# Altium footprint library PCB_ANT.PcbLib: 2 footprints
Each footprint in its own frame and in the unit in brackets; x right, y up, seen from the top. Pads: shape width x height; smd on the part's side, far side on the other; paste and mask are expansions set on the pad; w line width, h text height; cw(c..) or ccw(c..) is an arc to the next point about the centre after c.
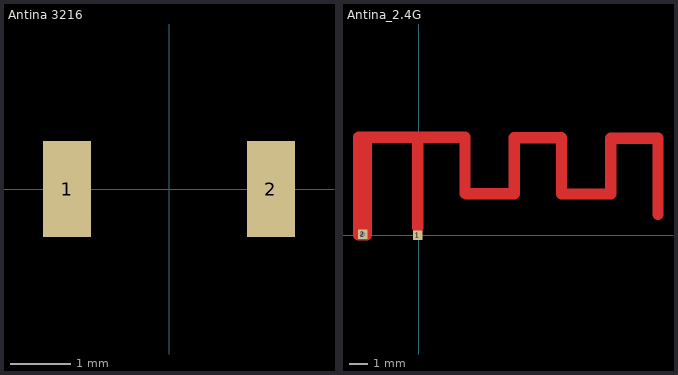
[diagram p0: the footprints below, top view; thin cyan lines are the x and y axes]

## Antina 3216 [mm]
pads (2):
  rect 0.8x1.6 smd: 1(-1.7,0) 2(1.7,0)
3D body "antina3216.sldprt": height 1.3, standoff 0, extent -1.6,-0.8 1.6,0.8

## Antina_2.4G [mm]
pads (2):
  rect 0.5x0.5 smd: 1(-0.058,-0.003)
  rect 0.508x0.508 hole 0.3: 2(-2.979,0.047)
Top Layer:
  rectangle: -3.2,-0.3 -2.8,0.4
  lines w0.6: -3.2,0 -3.2,5.204 -2.794,5.204 ; -2.794,0 -2.794,5.204 ; -0.051,0.4 -0.051,5.204 ; 2.464,2.232 2.464,5.204 -0.051,5.204 ; 2.515,2.206 5.08,2.206 5.08,5.178 7.595,5.178 7.595,2.206 ; 7.645,2.181 10.211,2.181 10.211,5.153 12.725,5.153 12.725,1.114 ; -2.794,5.204 -0.051,5.204